# Altium footprint library IXYS.PcbLib: 1 footprints
Each footprint in its own frame and in the unit in brackets; x right, y up, seen from the top. Pads: shape width x height; smd on the part's side, far side on the other; paste and mask are expansions set on the pad; w line width, h text height; cw(c..) or ccw(c..) is an arc to the next point about the centre after c.
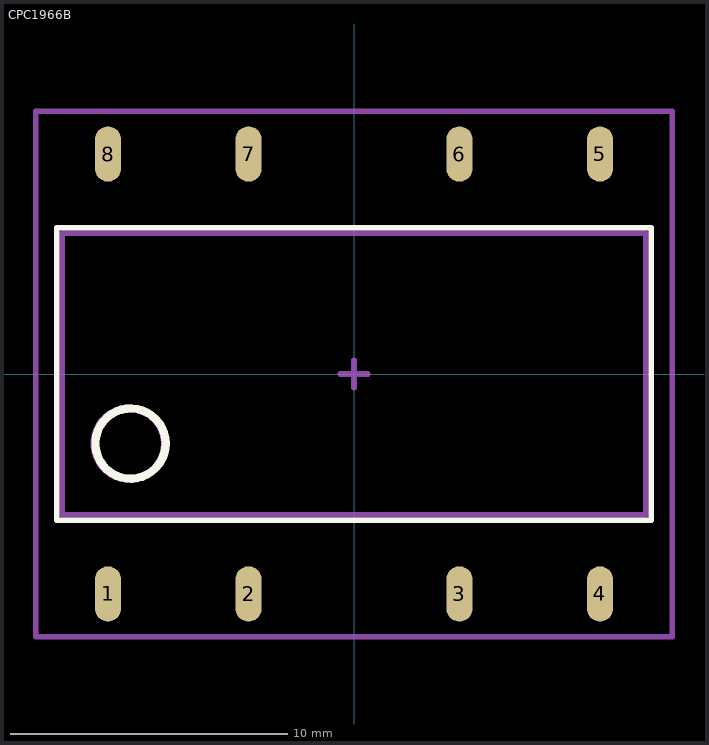
[diagram p0: the footprint, top view; thin cyan lines are the x and y axes]

## CPC1966B [mm]
height 3.429
pads (8):
  oval 0.95x2 smd: 1(-8.89,-7.95) 2(-3.81,-7.95) 3(3.81,-7.95) 4(8.89,-7.95) 5(8.89,7.95) 6(3.81,7.95) 7(-3.81,7.95) 8(-8.89,7.95)
Top Overlay:
  circle w0.3: c-8.077,-2.515 r1.269
  lines w0.2: -10.744,-5.283 -10.744,5.283 10.744,5.283 10.744,-5.283 -10.744,-5.283
3D Top:
  circle w0.3: c-8.103,-2.515 r1.272
  lines w0.2: -10.541,-5.08 10.541,-5.08 10.541,5.08 -10.541,5.08 -10.541,-5.08
Courtyard Top:
  lines w0.2: -0.5,0 0.5,0 ; 0,-0.5 0,0.5 ; -11.5,-9.5 -11.5,9.5 11.5,9.5 11.5,-9.5 -11.5,-9.5
3D body: height 1.78, standoff 0, extent -9.347,5.08 -8.433,8.382
3D body: height 1.78, standoff 0, extent -4.267,5.08 -3.353,8.382
3D body: height 1.78, standoff 0, extent 3.353,5.08 4.267,8.382
3D body: height 1.78, standoff 0, extent 8.433,5.08 9.347,8.382
3D body: height 1.78, standoff 0, extent 8.433,-8.382 9.347,-5.08
3D body: height 1.78, standoff 0, extent 3.353,-8.382 4.267,-5.08
3D body: height 1.78, standoff 0, extent -4.267,-8.382 -3.353,-5.08
3D body: height 1.78, standoff 0, extent -9.347,-8.382 -8.433,-5.08
3D body: height 3.3, standoff 0.13, extent -10.541,-5.08 10.541,5.08